# Altium footprint library SAMTEC_BBL-131-T-F.PcbLib: 1 footprints
Each footprint in its own frame and in the unit in brackets; x right, y up, seen from the top. Pads: shape width x height; smd on the part's side, far side on the other; paste and mask are expansions set on the pad; w line width, h text height; cw(c..) or ccw(c..) is an arc to the next point about the centre after c.
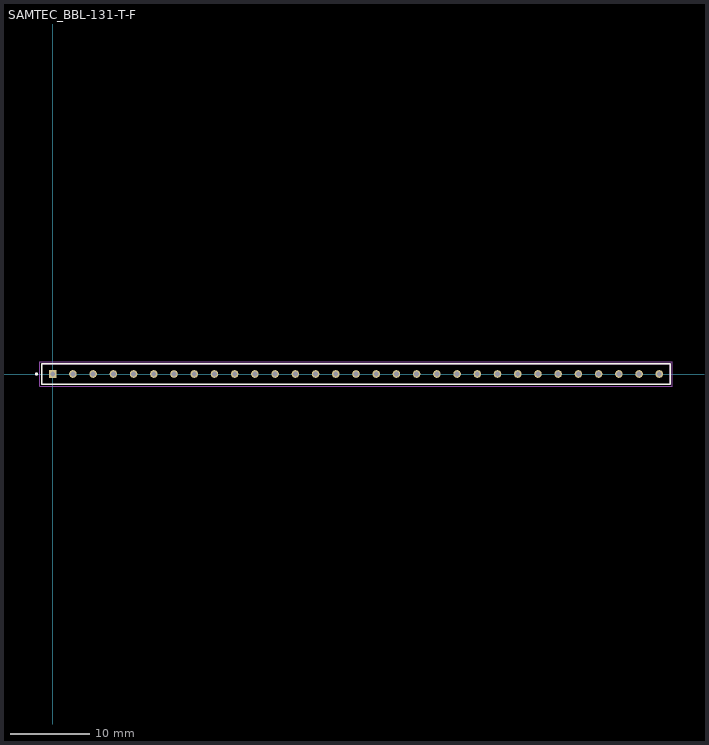
[diagram p0: the footprint, top view; thin cyan lines are the x and y axes]

## SAMTEC_BBL-131-T-F [mm]
pads (31):
  rect 0.96x0.96 hole 0.61: 01(0,0)
  round 0.96 hole 0.61: 02(2.54,0) 03(5.08,0) 04(7.62,0) 05(10.16,0) 06(12.7,0) 07(15.24,0) 08(17.78,0) 09(20.32,0) 10(22.86,0) 11(25.4,0) 12(27.94,0) 13(30.48,0) 14(33.02,0) 15(35.56,0) 16(38.1,0) 17(40.64,0) 18(43.18,0) 19(45.72,0) 20(48.26,0) 21(50.8,0) 22(53.34,0) 23(55.88,0) 24(58.42,0) 25(60.96,0) 26(63.5,0) 27(66.04,0) 28(68.58,0) 29(71.12,0) 30(73.66,0) 31(76.2,0)
Top Overlay:
  circle w0.2: c-2.022,0 r0.1
  lines w0.2: -1.372,-1.27 -1.372,1.27 77.572,1.27 77.572,-1.27 -1.372,-1.27
Mechanical 13:
  circle w0.2: c-2.022,0 r0.1
  lines w0.1: -1.372,-1.27 -1.372,1.27 77.572,1.27 77.572,-1.27 -1.372,-1.27
Mechanical 15:
  lines w0.05: -1.622,-1.52 -1.622,1.52 77.822,1.52 77.822,-1.52 -1.622,-1.52